# EAGLE library part RELAY5V (library SKAARHOJ)
RELAY 2 x switch, AxiCom 150 mW 5V
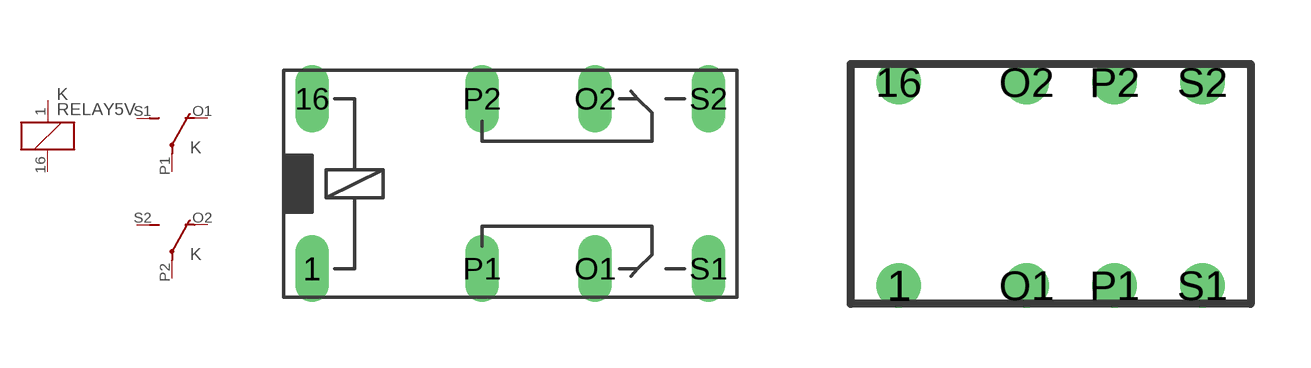
[diagram p1: symbol with the pads of 351; footprints 351, DS2Y]

Designator prefix K; gates 1=K 2=U 3=U

## RELAY5V351  [351]
1  1:1  pas
16  1:2  pas
O1  2:O  pas
O2  3:O  pas
P1  2:P  pas
P2  3:P  pas
S1  2:S  pas
S2  3:S  pas

## RELAY5VIM03  [DS2Y]
Pads as for 351

## Footprint 351 (pad centres in mm)
RELAY 2 x switch, same as G5 V-2, Omron
drill 1 long: 1 -3.81,-3.81; 16 -3.81,3.81; O1 8.89,-3.81; O2 8.89,3.81; P1 3.81,-3.81; P2 3.81,3.81; S1 13.97,-3.81; S2 13.97,3.81

## Footprint DS2Y (pad centres in mm)
MINIATURE RELAY NAiS Source: http://www.mew-europe.com/.. en_ds_61005_0023.pdf
drill 0.6: 1 1.2,0.46; 16 1.2,5.54; O1 4.4,0.46; O2 4.4,5.54; P1 6.6,0.46; P2 6.6,5.54; S1 8.8,0.46; S2 8.8,5.54